# Altium integrated library ON Semi Logic Timer.IntLib: 14 symbols
Pins are listed as number, name and electrical type; pins without a type are passive.

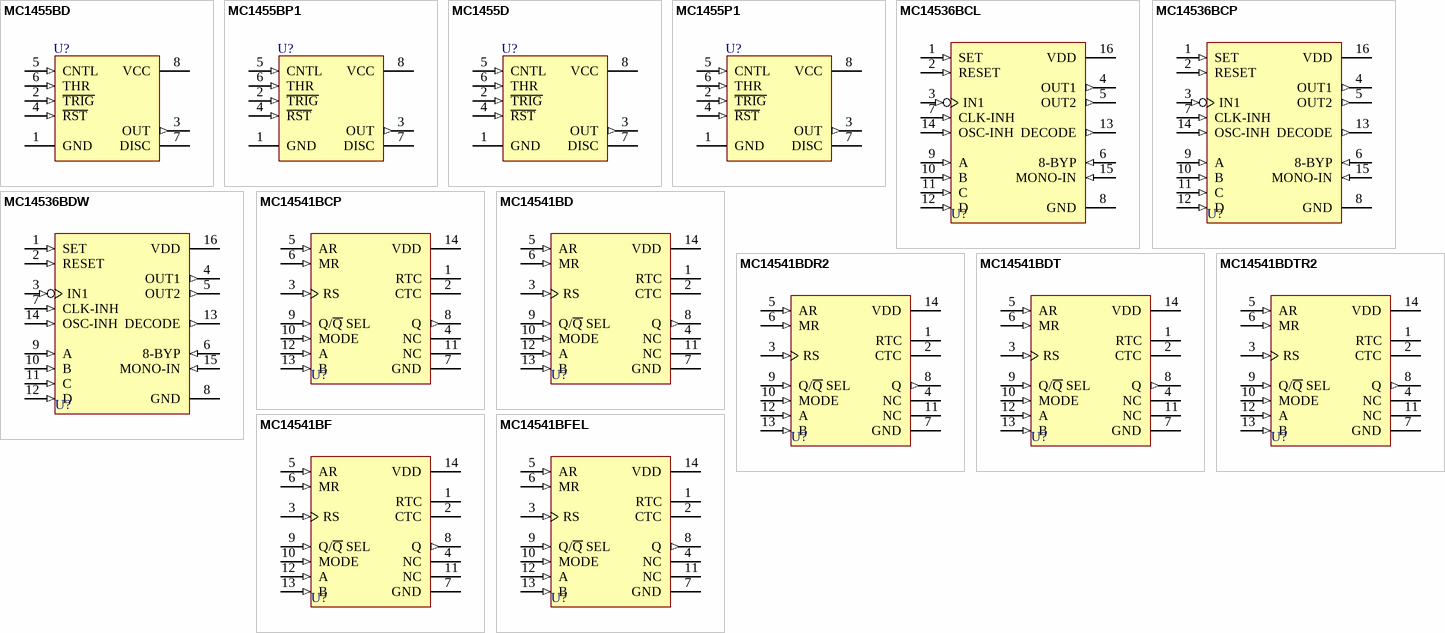
[diagram p0: symbols MC1455BD to MC14541BFEL]

## MC1455BD
designator U?
Timing Circuit; Note: The reset pin should be tied to the supply voltage when not in use.; Published: 28-Feb-2003; LatestRevisionDate: 13-Apr-2006; LatestRevisionNote: IPC-7351 Footprint Added.; DatasheetVersion: Jan-2002, Rev. 6; PackageVersion: rev7, Jan-2002; PackageReference: 751-07; Publisher: Altium Limited; PackageDescription: 8-Pin Plastic Small Outline Integrated Circuit 1.27 mm Pitch; Code_JEDEC: MS-012-AA; Code_IPC: SOIC127P600-8; ComponentLink1Description: Manufacturer Link; ComponentLink1URL: http://www.onsemi.com/; ComponentLink2Description: Datasheet; ComponentLink2URL: http://www.onsemi.com/pub/Collateral/MC1455-D.PDF
footprint 751-07_N (SOIC, 8-Leads, Body 4.9x3.9mm, Pitch 1.27mm, IPC Medium Density)
footprint 751-07_L (SOIC, 8-Leads, Body 4.9x3.9mm, Pitch 1.27mm, IPC High Density)
footprint 751-07_M (SOIC, 8-Leads, Body 4.9x3.9mm, Pitch 1.27mm, IPC Low Density)
pins: 1 GND (power), 2 ~{TRIG} (in), 3 OUT (out), 4 ~{RST} (in), 5 CNTL (in), 6 THR (in), 7 DISC (oc), 8 VCC (power)

## MC1455BP1
designator U?
Timing Circuit; Note: The reset pin should be tied to the supply voltage when not in use.; Published: 28-Feb-2003; DatasheetVersion: Jan-2002, Rev. 6; PackageVersion: 1998; PackageReference: 626-05; Publisher: Altium Limited; PackageDescription: DIP; 8 Leads; Row Spacing 7.62 mm; Pitch 2.54 mm; ComponentLink1Description: Manufacturer Link; ComponentLink1URL: http://www.onsemi.com/; ComponentLink2Description: Datasheet; ComponentLink2URL: http://www.onsemi.com/pub/Collateral/MC1455-D.PDF
footprint 626-05 (DIP; 8 Leads; Row Spacing 7.62 mm; Pitch 2.54 mm)
pins: 1 GND (power), 2 ~{TRIG} (in), 3 OUT (out), 4 ~{RST} (in), 5 CNTL (in), 6 THR (in), 7 DISC (oc), 8 VCC (power)

## MC1455D
designator U?
Timing Circuit; Note: The reset pin should be tied to the supply voltage when not in use.; Published: 28-Feb-2003; LatestRevisionDate: 13-Apr-2006; LatestRevisionNote: IPC-7351 Footprint Added.; DatasheetVersion: Jan-2002, Rev. 6; PackageVersion: rev7, Jan-2002; PackageReference: 751-07; Publisher: Altium Limited; PackageDescription: 8-Pin Plastic Small Outline Integrated Circuit 1.27 mm Pitch; Code_JEDEC: MS-012-AA; Code_IPC: SOIC127P600-8; ComponentLink1Description: Manufacturer Link; ComponentLink1URL: http://www.onsemi.com/; ComponentLink2Description: Datasheet; ComponentLink2URL: http://www.onsemi.com/pub/Collateral/MC1455-D.PDF
footprint 751-07_N (SOIC, 8-Leads, Body 4.9x3.9mm, Pitch 1.27mm, IPC Medium Density)
footprint 751-07_L (SOIC, 8-Leads, Body 4.9x3.9mm, Pitch 1.27mm, IPC High Density)
footprint 751-07_M (SOIC, 8-Leads, Body 4.9x3.9mm, Pitch 1.27mm, IPC Low Density)
pins: 1 GND (power), 2 ~{TRIG} (in), 3 OUT (out), 4 ~{RST} (in), 5 CNTL (in), 6 THR (in), 7 DISC (oc), 8 VCC (power)

## MC1455P1
designator U?
Timing Circuit; Note: The reset pin should be tied to the supply voltage when not in use.; Published: 28-Feb-2003; DatasheetVersion: Jan-2002, Rev. 6; PackageVersion: 1998; PackageReference: 626-05; Publisher: Altium Limited; PackageDescription: DIP; 8 Leads; Row Spacing 7.62 mm; Pitch 2.54 mm; ComponentLink1Description: Manufacturer Link; ComponentLink1URL: http://www.onsemi.com/; ComponentLink2Description: Datasheet; ComponentLink2URL: http://www.onsemi.com/pub/Collateral/MC1455-D.PDF
footprint 626-05 (DIP; 8 Leads; Row Spacing 7.62 mm; Pitch 2.54 mm)
pins: 1 GND (power), 2 ~{TRIG} (in), 3 OUT (out), 4 ~{RST} (in), 5 CNTL (in), 6 THR (in), 7 DISC (oc), 8 VCC (power)

## MC14536BCL
designator U?
Programmable Timer; Note: Unused inputs must always be tied.  Unused outputs must be left open.; Published: 15-Apr-2002; DatasheetVersion: 1998; PackageVersion: 1998; PackageReference: 620-09; Publisher: Altium Limited; PackageDescription: DIP; 16 Leads; Row Spacing 7.62 mm; Pitch 2.54 mm; ComponentLink1Description: Manufacturer Link; ComponentLink1URL: http://www.onsemi.com/; ComponentLink2Description: Datasheet; ComponentLink2URL: http://www.onsemi.com/pub/Collateral/MC14536B-D.PDF
footprint 620-09 (DIP; 16 Leads; Row Spacing 7.62 mm; Pitch 2.54 mm)
pins: 1 SET (in), 2 RESET (in), 3 IN1 (in), 4 OUT1 (out), 5 OUT2 (out), 6 8-BYP (in), 7 CLK-INH (in), 8 GND (power), 9 A (in), 10 B (in), 11 C (in), 12 D (in), 13 DECODE (out), 14 OSC-INH (in), 15 MONO-IN (in), 16 VDD (power)

## MC14536BCP
designator U?
Programmable Timer; Note: Unused inputs must always be tied.  Unused outputs must be left open.; Published: 15-Apr-2002; DatasheetVersion: 1998; PackageVersion: Apr-2000; PackageReference: 648-08; Publisher: Altium Limited; PackageDescription: DIP; 16 Leads; Row Spacing 7.62 mm; Pitch 2.54 mm; Code_JEDEC: MS-001-BB; ComponentLink1Description: Manufacturer Link; ComponentLink1URL: http://www.onsemi.com/; ComponentLink2Description: Datasheet; ComponentLink2URL: http://www.onsemi.com/pub/Collateral/MC14536B-D.PDF
footprint 648-08 (DIP; 16 Leads; Row Spacing 7.62 mm; Pitch 2.54 mm)
pins: 1 SET (in), 2 RESET (in), 3 IN1 (in), 4 OUT1 (out), 5 OUT2 (out), 6 8-BYP (in), 7 CLK-INH (in), 8 GND (power), 9 A (in), 10 B (in), 11 C (in), 12 D (in), 13 DECODE (out), 14 OSC-INH (in), 15 MONO-IN (in), 16 VDD (power)

## MC14536BDW
designator U?
Programmable Timer; Note: Unused inputs must always be tied.  Unused outputs must be left open.; Published: 15-Apr-2002; LatestRevisionDate: 13-Apr-2006; LatestRevisionNote: IPC-7351 Footprint Added.; DatasheetVersion: 1998; PackageVersion: Jul-1999; PackageReference: 751G-03; Publisher: Altium Limited; PackageDescription: 16-Pin Small Outline Integrated Circuit 1.27 mm Pitch; ComponentLink1Description: Manufacturer Link; ComponentLink1URL: http://www.onsemi.com/; ComponentLink2Description: Datasheet; ComponentLink2URL: http://www.onsemi.com/pub/Collateral/MC14536B-D.PDF
footprint 751G-03_N (SOIC, 16-Leads, Body 10.3x7.5mm, Pitch 1.27mm, IPC Medium Density)
footprint 751G-03_L (SOIC, 16-Leads, Body 10.3x7.5mm, Pitch 1.27mm, IPC High Density)
footprint 751G-03_M (SOIC, 16-Leads, Body 10.3x7.5mm, Pitch 1.27mm, IPC Low Density)
pins: 1 SET (in), 2 RESET (in), 3 IN1 (in), 4 OUT1 (out), 5 OUT2 (out), 6 8-BYP (in), 7 CLK-INH (in), 8 GND (power), 9 A (in), 10 B (in), 11 C (in), 12 D (in), 13 DECODE (out), 14 OSC-INH (in), 15 MONO-IN (in), 16 VDD (power)

## MC14541BCP
designator U?
Programmable Timer; Published: 15-Apr-2002; LatestRevisionDate: 17-Sep-2003; LatestRevisionNote: PCB Footprint dimensions updated; DatasheetVersion: rev7, Aug-2000; PackageVersion: 1995; PackageReference: 646-06; Publisher: Altium Limited; PackageDescription: DIP; 14 Leads; Row Spacing 7.62 mm; Pitch 2.54 mm; ComponentLink1Description: Manufacturer Link; ComponentLink1URL: http://www.onsemi.com/; ComponentLink2Description: Datasheet; ComponentLink2URL: http://www.onsemi.com/pub/Collateral/MC14541B-D.PDF
footprint 646-06 (DIP; 14 Leads; Row Spacing 7.62 mm; Pitch 2.54 mm)
pins: 1 RTC, 2 CTC, 3 RS (in), 4 NC, 5 AR (in), 6 MR (in), 7 GND (power), 8 Q (out), 9 Q/~{Q} SEL (in), 10 MODE (in), 11 NC, 12 A (in), 13 B (in), 14 VDD (power)

## MC14541BD
designator U?
Programmable Timer; Published: 15-Apr-2002; LatestRevisionDate: 13-Apr-2006; LatestRevisionNote: IPC-7351 Footprint Added.; DatasheetVersion: rev7, Aug-2000; PackageVersion: rev7, Aug-2000; PackageReference: 751A-03; Publisher: Altium Limited; PackageDescription: 14-Pin Small Outline Integrated Circuit 1.27 mm Pitch; Code_JEDEC: MS-012-AB; Code_IPC: SOIC127P600-14; ComponentLink1Description: Manufacturer Link; ComponentLink1URL: http://www.onsemi.com/; ComponentLink2Description: Datasheet; ComponentLink2URL: http://www.onsemi.com/pub/Collateral/MC14541B-D.PDF
footprint 751A-03_N (SOIC, 14-Leads, Body 8.7x3.9mm, Pitch 1.27mm, IPC Medium Density)
footprint 751A-03_L (SOIC, 14-Leads, Body 8.7x3.9mm, Pitch 1.27mm, IPC High Density)
footprint 751A-03_M (SOIC, 14-Leads, Body 8.7x3.9mm, Pitch 1.27mm, IPC Low Density)
pins: 1 RTC, 2 CTC, 3 RS (in), 4 NC, 5 AR (in), 6 MR (in), 7 GND (power), 8 Q (out), 9 Q/~{Q} SEL (in), 10 MODE (in), 11 NC, 12 A (in), 13 B (in), 14 VDD (power)

## MC14541BDR2
designator U?
Programmable Timer; Published: 28-Feb-2003; LatestRevisionDate: 13-Apr-2006; LatestRevisionNote: IPC-7351 Footprint Added.; DatasheetVersion: rev7, Aug-2000; PackageVersion: Aug-2000; PackageReference: 751A-03; Publisher: Altium Limited; PackageDescription: 14-Pin Small Outline Integrated Circuit 1.27 mm Pitch; Code_JEDEC: MS-012-AB; Code_IPC: SOIC127P600-14; ComponentLink1Description: Manufacturer Link; ComponentLink1URL: http://www.onsemi.com/; ComponentLink2Description: Datasheet; ComponentLink2URL: http://www.onsemi.com/pub/Collateral/MC14541B-D.PDF
footprint 751A-03_N (SOIC, 14-Leads, Body 8.7x3.9mm, Pitch 1.27mm, IPC Medium Density)
footprint 751A-03_L (SOIC, 14-Leads, Body 8.7x3.9mm, Pitch 1.27mm, IPC High Density)
footprint 751A-03_M (SOIC, 14-Leads, Body 8.7x3.9mm, Pitch 1.27mm, IPC Low Density)
pins: 1 RTC, 2 CTC, 3 RS (in), 4 NC, 5 AR (in), 6 MR (in), 7 GND (power), 8 Q (out), 9 Q/~{Q} SEL (in), 10 MODE (in), 11 NC, 12 A (in), 13 B (in), 14 VDD (power)

## MC14541BDT
designator U?
Programmable Timer; Published: 28-Feb-2003; LatestRevisionDate: 12-Dec-2006; LatestRevisionNote: IPC-7351 Footprint Added.; DatasheetVersion: rev7, Aug-2000; PackageVersion: 1998; PackageReference: 948G-01; Publisher: Altium Limited; PackageDescription: 14-Pin Thin Small Outline Package 0.65 mm Pitch; ComponentLink1Description: Manufacturer Link; ComponentLink1URL: http://www.onsemi.com/; ComponentLink2Description: Datasheet; ComponentLink2URL: http://www.onsemi.com/pub/Collateral/MC14541B-D.PDF
footprint 948G-01_N (TSOP, 14-Leads, Body 5x4.4mm, Pitch 0.65mm, IPC Medium Density)
footprint 948G-01_L (TSOP, 14-Leads, Body 5x4.4mm, Pitch 0.65mm, IPC High Density)
footprint 948G-01_M (TSOP, 14-Leads, Body 5x4.4mm, Pitch 0.65mm, IPC Low Density)
pins: 1 RTC, 2 CTC, 3 RS (in), 4 NC, 5 AR (in), 6 MR (in), 7 GND (power), 8 Q (out), 9 Q/~{Q} SEL (in), 10 MODE (in), 11 NC, 12 A (in), 13 B (in), 14 VDD (power)

## MC14541BDTR2
designator U?
Programmable Timer; Published: 28-Feb-2003; LatestRevisionDate: 12-Dec-2006; LatestRevisionNote: IPC-7351 Footprint Added.; DatasheetVersion: rev7, Aug-2000; PackageVersion: 1998; PackageReference: 948G-01; Publisher: Altium Limited; PackageDescription: 14-Pin Thin Small Outline Package 0.65 mm Pitch; ComponentLink1Description: Manufacturer Link; ComponentLink1URL: http://www.onsemi.com/; ComponentLink2Description: Datasheet; ComponentLink2URL: http://www.onsemi.com/pub/Collateral/MC14541B-D.PDF
footprint 948G-01_N (TSOP, 14-Leads, Body 5x4.4mm, Pitch 0.65mm, IPC Medium Density)
footprint 948G-01_L (TSOP, 14-Leads, Body 5x4.4mm, Pitch 0.65mm, IPC High Density)
footprint 948G-01_M (TSOP, 14-Leads, Body 5x4.4mm, Pitch 0.65mm, IPC Low Density)
pins: 1 RTC, 2 CTC, 3 RS (in), 4 NC, 5 AR (in), 6 MR (in), 7 GND (power), 8 Q (out), 9 Q/~{Q} SEL (in), 10 MODE (in), 11 NC, 12 A (in), 13 B (in), 14 VDD (power)

## MC14541BF
designator U?
Programmable Timer; Published: 17-Sep-2003; LatestRevisionDate: 13-Apr-2006; LatestRevisionNote: IPC-7351 Footprint Added.; DatasheetVersion: rev7, Aug-2000; PackageVersion: 1996; PackageReference: 965-01; Publisher: Altium Limited; PackageDescription: 14-Pin Small Outline Package 1.27 mm Pitch; ComponentLink1Description: Manufacturer Link; ComponentLink1URL: http://www.onsemi.com/; ComponentLink2Description: Datasheet; ComponentLink2URL: http://www.onsemi.com/pub/Collateral/MC14541B-D.PDF
footprint 965-01_N (SOP, 14-Leads, Body 10.2x5.3mm, Pitch 1.27mm, IPC Medium Density)
footprint 965-01_L (SOP, 14-Leads, Body 10.2x5.3mm, Pitch 1.27mm, IPC High Density)
footprint 965-01_M (SOP, 14-Leads, Body 10.2x5.3mm, Pitch 1.27mm, IPC Low Density)
pins: 1 RTC, 2 CTC, 3 RS (in), 4 NC, 5 AR (in), 6 MR (in), 7 GND (power), 8 Q (out), 9 Q/~{Q} SEL (in), 10 MODE (in), 11 NC, 12 A (in), 13 B (in), 14 VDD (power)

## MC14541BFEL
designator U?
Programmable Timer; Published: 17-Sep-2003; LatestRevisionDate: 13-Apr-2006; LatestRevisionNote: IPC-7351 Footprint Added.; DatasheetVersion: rev7, Aug-2000; PackageVersion: 1996; PackageReference: 965-01; Publisher: Altium Limited; PackageDescription: 14-Pin Small Outline Package 1.27 mm Pitch; ComponentLink1Description: Manufacturer Link; ComponentLink1URL: http://www.onsemi.com/; ComponentLink2Description: Datasheet; ComponentLink2URL: http://www.onsemi.com/pub/Collateral/MC14541B-D.PDF
footprint 965-01_N (SOP, 14-Leads, Body 10.2x5.3mm, Pitch 1.27mm, IPC Medium Density)
footprint 965-01_L (SOP, 14-Leads, Body 10.2x5.3mm, Pitch 1.27mm, IPC High Density)
footprint 965-01_M (SOP, 14-Leads, Body 10.2x5.3mm, Pitch 1.27mm, IPC Low Density)
pins: 1 RTC, 2 CTC, 3 RS (in), 4 NC, 5 AR (in), 6 MR (in), 7 GND (power), 8 Q (out), 9 Q/~{Q} SEL (in), 10 MODE (in), 11 NC, 12 A (in), 13 B (in), 14 VDD (power)